# Altium footprint library JSTXH-2.54mm-1X2-M-V.PcbLib: 1 footprints
Each footprint in its own frame and in the unit in brackets; x right, y up, seen from the top. Pads: shape width x height; smd on the part's side, far side on the other; paste and mask are expansions set on the pad; w line width, h text height; cw(c..) or ccw(c..) is an arc to the next point about the centre after c.
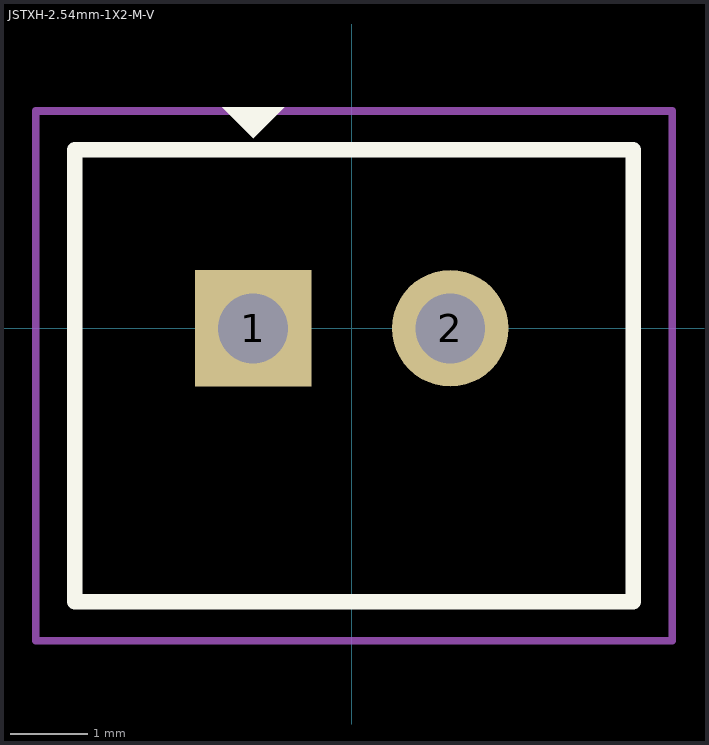
[diagram p0: the footprint, top view; thin cyan lines are the x and y axes]

## JSTXH-2.54mm-1X2-M-V [mm]
pads (2):
  rect 1.5x1.5 hole 0.9: 1(-1.27,0)
  round 1.5 hole 0.9: 2(1.27,0)
Top Overlay:
  region: -1.67,2.85 -0.87,2.85 -1.27,2.45
  lines w0.2: -3.57,-3.525 -3.57,2.3 3.63,2.3 3.63,-3.525 -3.57,-3.525
Top Courtyard:
  lines w0.1: -4.07,-4.025 -4.07,2.8 4.13,2.8 4.13,-4.025 -3.57,-4.025 -4.07,-4.025
3D body "JST - XH - Thru (V) - 2Pin - 2.54mm.stp": height 7.21, standoff -3, extent -3.577,-3.528 3.637,2.314